# Altium schematic symbol library ABLS2-25.000MHZ-D4Y-T.SchLib: 1 symbol
Pins are listed as number, name and electrical type; pins without a type are passive.

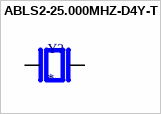
[diagram p0: symbol ABLS2-25.000MHZ-D4Y-T]

## ABLS2-25.000MHZ-D4Y-T
designator Y?
HC/49US (AT49) LOW PROFILE SURFACE MOUNT MICROPROCESSOR CRYSTAL; MF: Abracon LLC; MP: ABLS2-25.000MHZ-D4Y-T; SnapEDA_Link: https://www.snapeda.com/parts/ABLS2-25.000MHZ-D4Y-T/Abracon+LLC/view-part/?ref=snap; Package: None; Value: *; Check_prices: https://www.snapeda.com/parts/ABLS2-25.000MHZ-D4Y-T/Abracon+LLC/view-part/?ref=eda
footprint XTAL_ABLS2-25.000MHZ-D4Y-T
pins: 1, 2